# Altium footprint library BNC5-J-P-GN-RA-BH2D.PcbLib: 1 footprints
Each footprint in its own frame and in the unit in brackets; x right, y up, seen from the top. Pads: shape width x height; smd on the part's side, far side on the other; paste and mask are expansions set on the pad; w line width, h text height; cw(c..) or ccw(c..) is an arc to the next point about the centre after c.
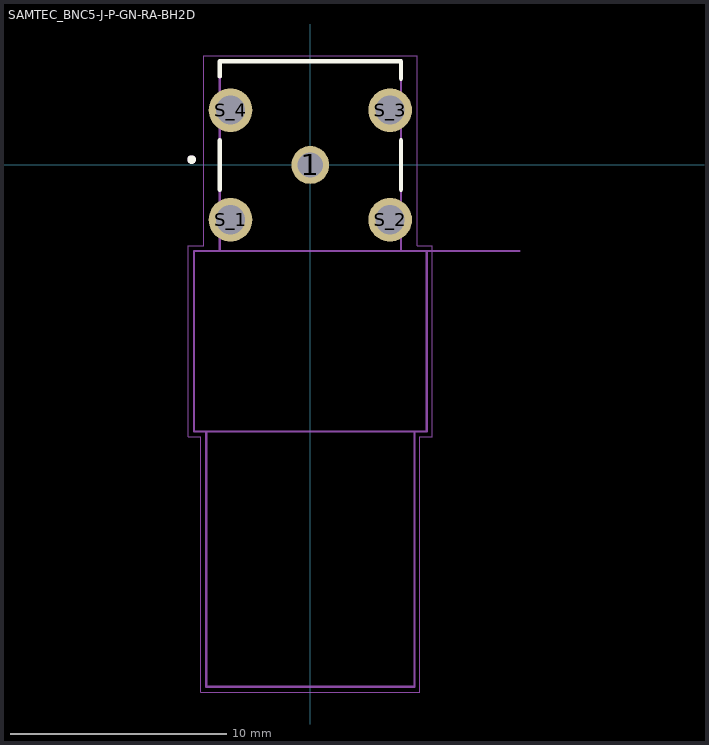
[diagram p0: the footprint, top view; thin cyan lines are the x and y axes]

## SAMTEC_BNC5-J-P-GN-RA-BH2D [mm]
pads (5):
  round 1.755 hole 1.17: 1(0,0)
  round 2.025 hole 1.35: S_1(-3.7,-2.54) S_2(3.7,-2.54) S_3(3.7,2.54) S_4(-3.7,2.54)
Top Overlay:
  circle w0.2: c-5.5,0.25 r0.1
  lines w0.2: -4.2,-1.15 -4.2,1.15 ; -4.2,4.1 -4.2,4.81 4.2,4.81 4.2,4 ; 4.2,-1.15 4.2,1.15
Mechanical 13:
  circle w0.2: c-5.5,0.25 r0.1
  lines w0.1: 9.7,-3.99 5.4,-3.99 ; -4.825,-12.36 -4.825,-24.19 4.825,-24.19 4.825,-12.36 ; -4.825,-12.36 4.825,-12.36 ; -4.825,-12.36 -5.4,-12.36 -5.4,-3.99 -4.2,-3.99 ; -4.2,-3.99 -4.2,4.81 4.2,4.81 4.2,-3.99 ; -4.2,-3.99 4.2,-3.99 ; 4.2,-3.99 5.4,-3.99 ; 4.825,-12.36 5.4,-12.36 5.4,-3.99
  text "PCB EDGE" at 6.399,-3.753 h0.5
Mechanical 15:
  lines w0.05: -5.65,-12.61 -5.075,-12.61 -5.075,-24.44 5.075,-24.44 5.075,-12.61 5.65,-12.61 5.65,-3.74 4.95,-3.74 4.95,5.06 -4.95,5.06 -4.95,-3.74 -5.65,-3.74 -5.65,-12.61
3D body "step_temp.STEP": height 12, standoff -4.5, extent -8,-24.19 8,4.81